# Altium footprint library QFN.PcbLib: 2 footprints
Each footprint in its own frame and in the unit in brackets; x right, y up, seen from the top. Pads: shape width x height; smd on the part's side, far side on the other; paste and mask are expansions set on the pad; w line width, h text height; cw(c..) or ccw(c..) is an arc to the next point about the centre after c.
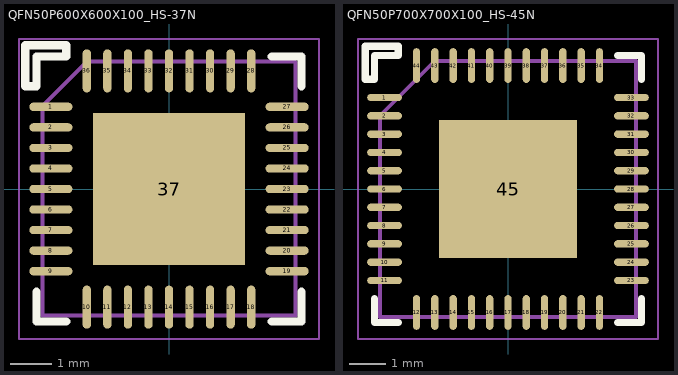
[diagram p0: the footprints below, top view; thin cyan lines are the x and y axes]

## QFN50P600X600X100_HS-37N [mm] "QFN, 36-Leads, Body 6.00x6.00mm, Pitch 0.50mm, Thermal Pad 3.70x3.70mm, IPC Medium Density"
height 1
pads (37):
  oval 1.05x0.2 smd: 1(-2.875,2) 2(-2.875,1.5) 3(-2.875,1) 4(-2.875,0.5) 5(-2.875,0) 6(-2.875,-0.5) 7(-2.875,-1) 8(-2.875,-1.5) 9(-2.875,-2) 19(2.875,-2) 20(2.875,-1.5) 21(2.875,-1) 22(2.875,-0.5) 23(2.875,0) 24(2.875,0.5) 25(2.875,1) 26(2.875,1.5) 27(2.875,2)
  oval 0.2x1.05 smd: 10(-2,-2.875) 11(-1.5,-2.875) 12(-1,-2.875) 13(-0.5,-2.875) 14(0,-2.875) 15(0.5,-2.875) 16(1,-2.875) 17(1.5,-2.875) 18(2,-2.875) 28(2,2.875) 29(1.5,2.875) 30(1,2.875) 31(0.5,2.875) 32(0,2.875) 33(-0.5,2.875) 34(-1,2.875) 35(-1.5,2.875) 36(-2,2.875)
  rect 3.7x3.7 smd: 37(0,0)
Top Overlay:
  lines w0.2: -3.225,-2.5 -3.225,-3.225 -2.5,-3.225 ; 2.5,-3.225 3.225,-3.225 3.225,-2.5 ; 2.5,3.225 3.225,3.225 3.225,2.5 ; -3.5,2.5 -3.225,2.5 -3.225,3.225 -2.5,3.225 -2.5,3.5 -3.5,3.5 -3.5,2.5
Assembly:
  lines w0.1: -3.075,-3.075 3.075,-3.075 3.075,3.075 3.05,3.1 -2,3.1 -3.075,2.025 -3.075,2 -3.075,-3.075
Courtyard:
  lines w0.05: -3.65,-3.65 3.65,-3.65 3.65,3.65 -3.65,3.65 -3.65,-3.65
3D body: height 1, standoff 0.05, extent -3.075,-3.075 3.075,3.075

## QFN50P700X700X100_HS-45N [mm] "QFN, 44-Leads, Body 7.00x7.00mm, Pitch 0.50mm, Thermal Pad 3.78x3.78mm, IPC Medium Density"
height 1
pads (45):
  oval 0.95x0.2 smd: 1(-3.375,2.5) 2(-3.375,2) 3(-3.375,1.5) 4(-3.375,1) 5(-3.375,0.5) 6(-3.375,0) 7(-3.375,-0.5) 8(-3.375,-1) 9(-3.375,-1.5) 10(-3.375,-2) 11(-3.375,-2.5) 23(3.375,-2.5) 24(3.375,-2) 25(3.375,-1.5) 26(3.375,-1) 27(3.375,-0.5) 28(3.375,0) 29(3.375,0.5) 30(3.375,1) 31(3.375,1.5) 32(3.375,2) 33(3.375,2.5)
  oval 0.2x0.95 smd: 12(-2.5,-3.375) 13(-2,-3.375) 14(-1.5,-3.375) 15(-1,-3.375) 16(-0.5,-3.375) 17(0,-3.375) 18(0.5,-3.375) 19(1,-3.375) 20(1.5,-3.375) 21(2,-3.375) 22(2.5,-3.375) 34(2.5,3.375) 35(2,3.375) 36(1.5,3.375) 37(1,3.375) 38(0.5,3.375) 39(0,3.375) 40(-0.5,3.375) 41(-1,3.375) 42(-1.5,3.375) 43(-2,3.375) 44(-2.5,3.375)
  rect 3.78x3.78 smd: 45(0,0)
Top Overlay:
  lines w0.2: -3.65,-3 -3.65,-3.65 -3,-3.65 ; 3,-3.65 3.65,-3.65 3.65,-3 ; 3,3.65 3.65,3.65 3.65,3 ; -3.9,3 -3.9,3.9 -3,3.9 -3,3.65 -3.65,3.65 -3.65,3 -3.9,3
Assembly:
  lines w0.1: -3.5,-3.5 3.5,-3.5 3.5,3.5 -2,3.5 -3.5,2 -3.5,-3.5
Courtyard:
  lines w0.05: -4.1,-4.1 4.1,-4.1 4.1,4.1 -4.1,4.1 -4.1,-4.1
3D body: height 1, standoff 0.05, extent -3.5,-3.5 3.5,3.5